# EAGLE library part 15-25VA (library trafo-amveco)
15 and 25 VA toroidal PC-mount transformer
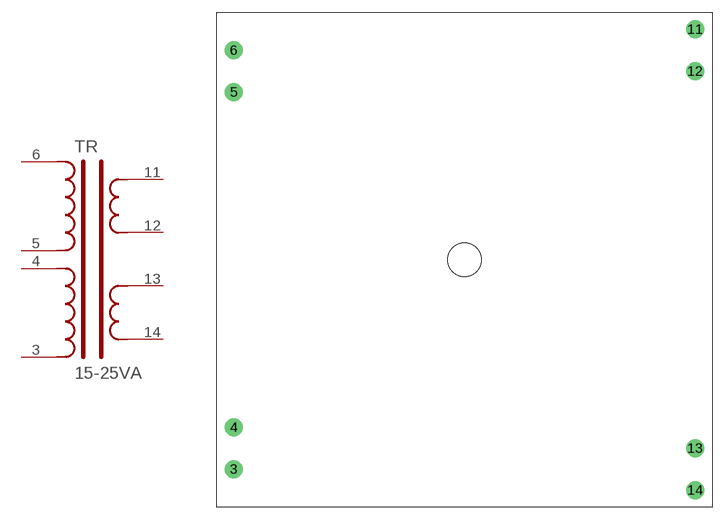
[diagram p0: symbol with the pads of 15_25VA-PC; footprint 15_25VA-PC]

Designator prefix TR

## 15-25VA  [15_25VA-PC]
3  3  pas
4  4  pas
5  5  pas
6  6  pas
11  11  pas
12  12  pas
13  13  pas
14  14  pas

## Footprint 15_25VA-PC (pad centres in mm)
AMVECO (a.k.a Talema) 15 and 25 VA PC-mount encapsulated toroidal transformer
drill 1.143 pad 2.159 round: 3 -27.94,-25.4; 4 -27.94,-20.32; 5 -27.94,20.32; 6 -27.94,25.4; 11 27.94,27.94; 12 27.94,22.86; 13 27.94,-22.86; 14 27.94,-27.94
hole 4.064 at 0,0